# EAGLE library part YUN (library matt)
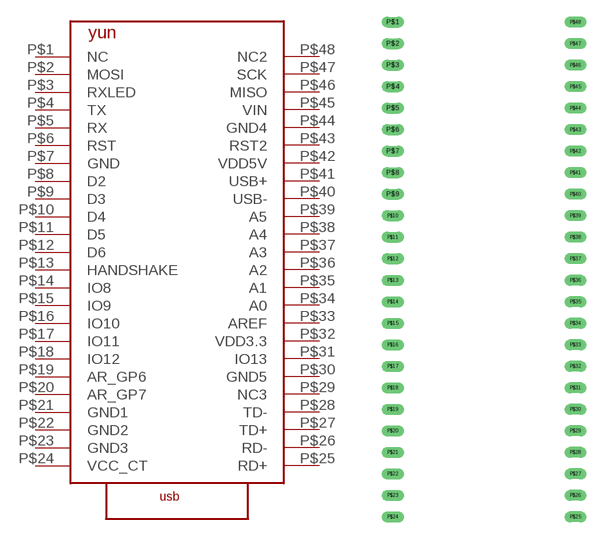
[diagram p9: symbol with the pads of YUN; footprint YUN]

Designator prefix -

## YUN  [YUN]
P$1  NC
P$2  MOSI
P$3  RXLED
P$4  TX
P$5  RX
P$6  RST
P$7  GND
P$8  D2
P$9  D3
P$10  D4
P$11  D5
P$12  D6
P$13  HANDSHAKE
P$14  IO8
P$15  IO9
P$16  IO10
P$17  IO11
P$18  IO12
P$19  AR_GP6
P$20  AR_GP7
P$21  GND1
P$22  GND2
P$23  GND3
P$24  VCC_CT
P$25  RD+
P$26  RD-
P$27  TD+
P$28  TD-
P$29  NC3
P$30  GND5
P$31  IO13
P$32  VDD3.3
P$33  AREF
P$34  A0
P$35  A1
P$36  A2
P$37  A3
P$38  A4
P$39  A5
P$40  USB-
P$41  USB+
P$42  VDD5V
P$43  RST2
P$44  GND4
P$45  VIN
P$46  MISO
P$47  SCK
P$48  NC2

## Footprint YUN (pad centres in mm)
drill 0.8 long: P$1 -11.43,29.21; P$2 -11.43,26.67; P$3 -11.43,24.13; P$4 -11.43,21.59; P$5 -11.43,19.05; P$6 -11.43,16.51; P$7 -11.43,13.97; P$8 -11.43,11.43; P$9 -11.43,8.89; P$10 -11.43,6.35; P$11 -11.43,3.81; P$12 -11.43,1.27; P$13 -11.43,-1.27; P$14 -11.43,-3.81; P$15 -11.43,-6.35; P$16 -11.43,-8.89; P$17 -11.43,-11.43; P$18 -11.43,-13.97; P$19 -11.43,-16.51; P$20 -11.43,-19.05; P$21 -11.43,-21.59; P$22 -11.43,-24.13; P$23 -11.43,-26.67; P$24 -11.43,-29.21; P$25 10.16,-29.21; P$26 10.16,-26.67; P$27 10.16,-24.13; P$28 10.16,-21.59; P$29 10.16,-19.05; P$30 10.16,-16.51; P$31 10.16,-13.97; P$32 10.16,-11.43; P$33 10.16,-8.89; P$34 10.16,-6.35; P$35 10.16,-3.81; P$36 10.16,-1.27; P$37 10.16,1.27; P$38 10.16,3.81; P$39 10.16,6.35; P$40 10.16,8.89; P$41 10.16,11.43; P$42 10.16,13.97; P$43 10.16,16.51; P$44 10.16,19.05; P$45 10.16,21.59; P$46 10.16,24.13; P$47 10.16,26.67; P$48 10.16,29.21